# EAGLE library part HN2S03FE (library diode)
SCHOTTKY DIODE ARRAY
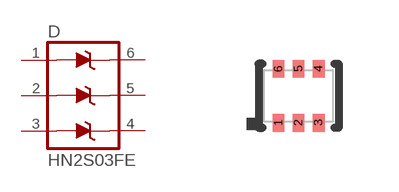
[diagram p16: symbol with the pads of SOT563; footprint SOT563]

Designator prefix D

## HN2S03FE  [SOT563]
1  A1  pas
2  A2  pas
3  A3  pas
4  C3  pas
5  C2  pas
6  C1  pas

## Footprint SOT563 (pad centres in mm)
SOT-563 DRL (R-PDSO-N6)
smd 0.3 x 0.45: 1 -0.5,-0.675; 2 0,-0.675; 3 0.5,-0.675; 4 0.5,0.675; 5 0,0.675; 6 -0.5,0.675